# Altium integrated library 5029.IntLib: 1 symbol
Pins are listed as number, name and electrical type; pins without a type are passive.

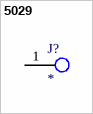
[diagram p0: symbol 5029]

## 5029
designator J?
pins: 1